# EAGLE library part 90130-1106 (library Molex)
2.54mm (.100") Pitch C-Grid III™ Header, Dual Row, Vertical, Shrouded, Fully Loaded, 6 Circuits, Black, 4µm (160µ") Tin/Lead (Sn) over Nickel (Ni)
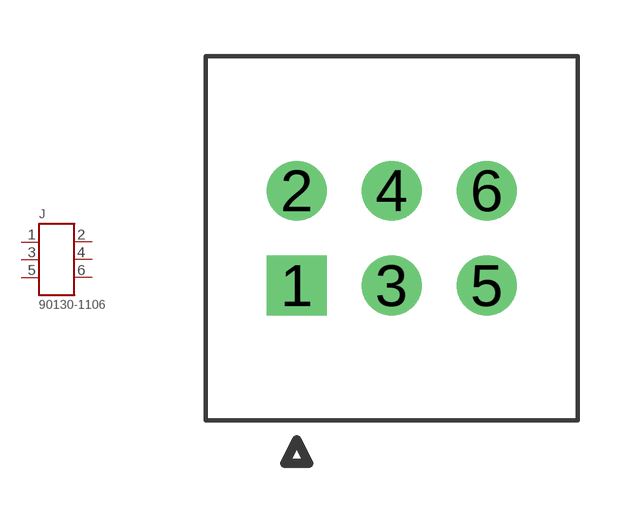
[diagram p3: symbol with the pads of 2X3; footprint 2X3]

Designator prefix J

## 90130-1106  [2X3]
1  P$1  pas
2  P$2  pas
3  P$3  pas
4  P$4  pas
5  P$5  pas
6  P$6  pas

## Footprint 2X3 (pad centres in mm)
drill 1.067 square: 1 -2.54,-1.27
drill 1.067: 2 -2.54,1.27; 3 0,-1.27; 4 0,1.27; 5 2.54,-1.27; 6 2.54,1.27